# Altium integrated library WakameBoard.IntLib: 49 symbols
Pins are listed as number, name and electrical type; pins without a type are passive.

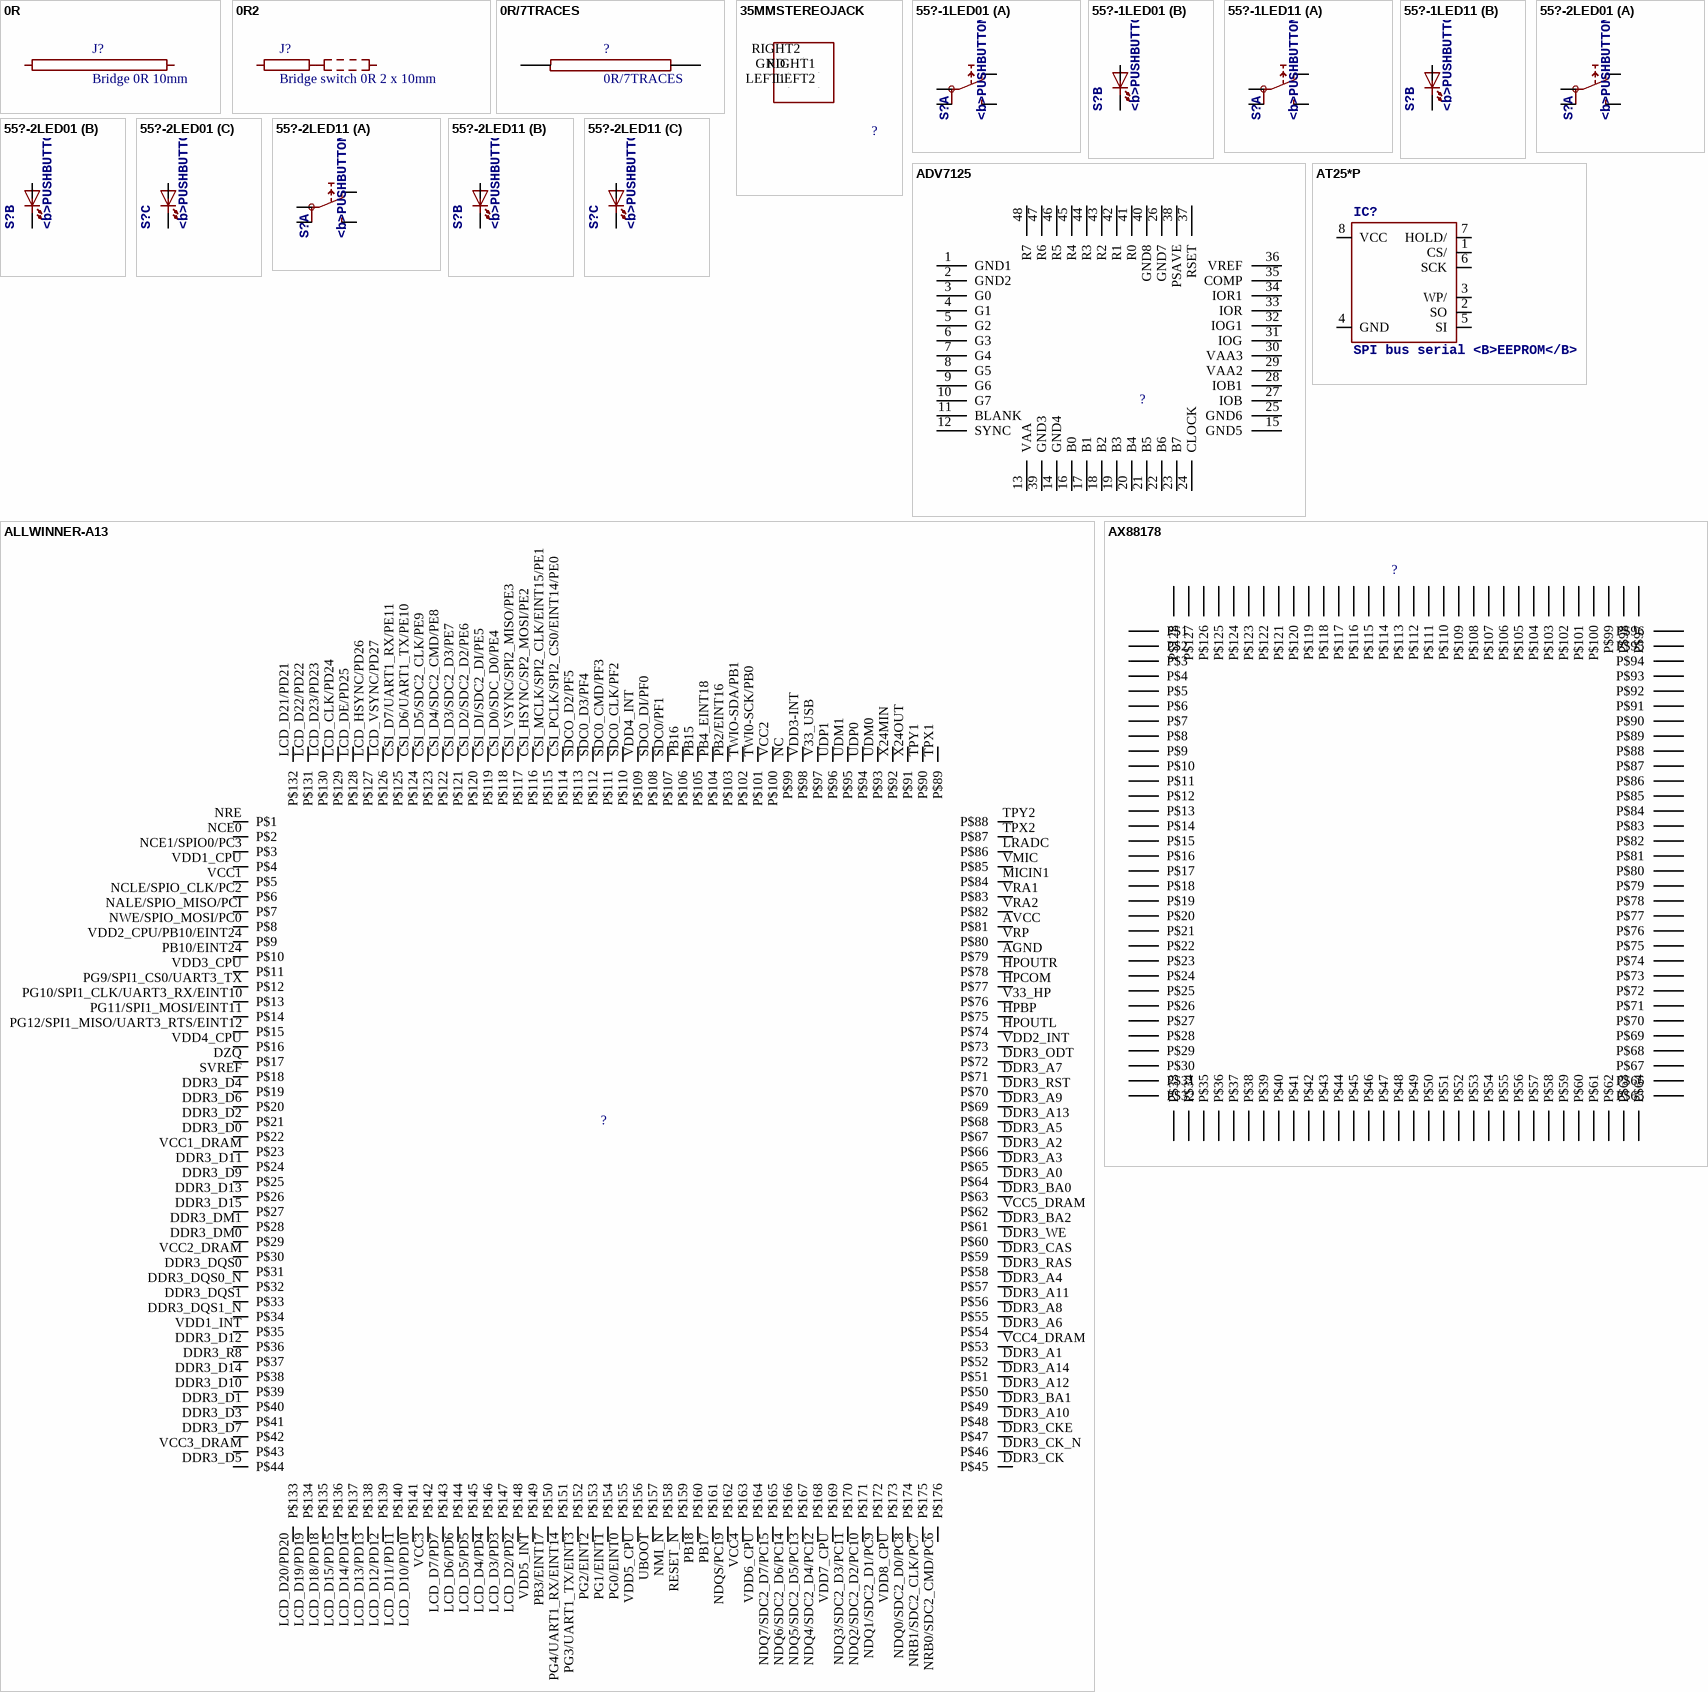
[diagram p0: symbols 0R to AX88178]

## 0R
designator J?, comment Bridge 0R 10mm
footprint 0R/10
pins: 1, 2

## 0R2
designator J?, comment Bridge switch 0R 2 x 10mm
footprint 0R2/10
pins: 1, 2, 3

## 0R/7TRACES
designator ?
footprint 0R/7TRACES
pins: P$1, P$2

## 35MMSTEREOJACK
designator ?
footprint PG203J
pins: GND P$1, LEFT1 P$2, LEFT2 P$3, RIGHT1 P$4, RIGHT2 P$5

## 55?-1LED01
designator S?, comment <b>PUSHBUTTON SERIES 5500 SWITCHES</b> 1 LED<p> / Source: www.e-switch.com .. 5500.pdf
footprint 5501-1LED
part A pins: 1A, 1B, NC, NO
part B pins: + A, - K

## 55?-1LED11
designator S?, comment <b>PUSHBUTTON SERIES 5500 SWITCHES</b> 1 LED<p> / Source: www.e-switch.com .. 5500.pdf
footprint 5511-1LED
part A pins: 1A, 1B, NC, NO
part B pins: +G A, -G K

## 55?-2LED01
designator S?, comment <b>PUSHBUTTON SERIES 5500 SWITCHES</b> 2 LED<p> / Source: www.e-switch.com .. 5500.pdf
footprint 5501-2LED
part A pins: 1A, 1B, NC, NO
part B pins: +R A, -R K
part C pins: +G A, -G K

## 55?-2LED11
designator S?, comment <b>PUSHBUTTON SERIES 5500 SWITCHES</b> 2 LED<p> / Source: www.e-switch.com .. 5500.pdf
footprint 5511-2LED
part A pins: 1A, 1B, NC, NO
part B pins: +Y A, -Y K
part C pins: +R A, -R K

## ADV7125
designator ?
footprint LFCSP48
pins: 1 GND1, 2 GND2, 3 G0, 4 G1, 5 G2, 6 G3, 7 G4, 8 G5, 9 G6, 10 G7, 11 BLANK, 12 SYNC, 13 VAA, 14 GND4, 15 GND5, 16 B0, 17 B1, 18 B2, 19 B3, 20 B4, 21 B5, 22 B6, 23 B7, 24 CLOCK, 25 GND6, 26 GND7, 27 IOB, 28 IOB1, 29 VAA2, 30 VAA3, 31 IOG, 32 IOG1, 33 IOR, 34 IOR1, 35 COMP, 36 VREF, 37 RSET, 38 PSAVE, 39 GND3, 40 GND8, 41 R0, 42 R1, 43 R2, 44 R3, 45 R4, 46 R5, 47 R6, 48 R7

## ALLWINNER-A13
designator ?
footprint PG-LQFP-176-2
pins: AGND P$79, AVCC P$81, CSI_D0/SDC_D0/PE4 P$118, CSI_D2/SDC2_D2/PE6 P$120, CSI_D3/SDC2_D3/PE7 P$121, CSI_D4/SDC2_CMD/PE8 P$122, CSI_D5/SDC2_CLK/PE9 P$123, CSI_D6/UART1_TX/PE10 P$124, CSI_D7/UART1_RX/PE11 P$125, CSI_DI/SDC2_DI/PE5 P$119, CSI_HSYNC/SP2_MOSI/PE2 P$116, CSI_MCLK/SPI2_CLK/EINT15/PE1 P$115, CSI_PCLK/SPI2_CS0/EINT14/PE0 P$114, CSI_VSYNC/SPI2_MISO/PE3 P$117, DDR3_A0 P$64, DDR3_A1 P$52, DDR3_A2 P$66, DDR3_A3 P$65, DDR3_A4 P$57, DDR3_A5 P$67, DDR3_A6 P$54, DDR3_A7 P$71, DDR3_A8 P$55, DDR3_A9 P$69, DDR3_A10 P$48, DDR3_A11 P$56, DDR3_A12 P$50, DDR3_A13 P$68, DDR3_A14 P$51, DDR3_BA0 P$63, DDR3_BA1 P$49, DDR3_BA2 P$61, DDR3_CAS P$59, DDR3_CK P$45, DDR3_CK_N P$46, DDR3_CKE P$47, DDR3_D0 P$22, DDR3_D1 P$40, DDR3_D2 P$21, DDR3_D3 P$41, DDR3_D4 P$19, DDR3_D5 P$44, DDR3_D6 P$20, DDR3_D7 P$42, DDR3_D9 P$25, DDR3_D10 P$39, DDR3_D11 P$24, DDR3_D12 P$36, DDR3_D13 P$26, DDR3_D14 P$38, DDR3_D15 P$27, DDR3_DM0 P$29, DDR3_DM1 P$28, DDR3_DQS0 P$31, DDR3_DQS0_N P$32, DDR3_DQS1 P$33, DDR3_DQS1_N P$34, DDR3_ODT P$72, DDR3_R8 P$37, DDR3_RAS P$58, DDR3_RST P$70, DDR3_WE P$60, DZQ P$17, HPBP P$75, HPCOM P$77, HPOUTL P$74, HPOUTR P$78, LCD_CLK/PD24 P$129, LCD_D2/PD2 P$148, LCD_D3/PD3 P$147, LCD_D4/PD4 P$146, LCD_D5/PD5 P$145, LCD_D6/PD6 P$144, LCD_D7/PD7 P$143, LCD_D10/PD10 P$141, LCD_D11/PD11 P$140, LCD_D12/PD12 P$139, LCD_D13/PD13 P$138, LCD_D14/PD14 P$137, LCD_D15/PD15 P$136, LCD_D18/PD18 P$135, LCD_D19/PD19 P$134, LCD_D20/PD20 P$133, LCD_D21/PD21 P$132, LCD_D22/PD22 P$131, LCD_D23/PD23 P$130, LCD_DE/PD25 P$128, LCD_HSYNC/PD26 P$127, LCD_VSYNC/PD27 P$126, LRADC P$86, MICIN1 P$84, NALE/SPIO_MISO/PCI P$7, NC P$99, NCE0 P$2, NCE1/SPIO0/PC3 P$3, NCLE/SPIO_CLK/PC2 P$6, NDQ0/SDC2_D0/PC8 P$174, NDQ1/SDC2_D1/PC9 P$172, NDQ2/SDC2_D2/PC10 P$171, NDQ3/SDC2_D3/PC11 P$170, NDQ4/SDC2_D4/PC12 P$168, NDQ5/SDC2_D5/PC13 P$167, NDQ6/SDC2_D6/PC14 P$166, NDQ7/SDC2_D7/PC15 P$165, NDQS/PC19 P$162, NMI_N P$158, NRB0/SDC2_CMD/PC6 P$176, NRB1/SDC2_CLK/PC7 P$175, NRE P$1, NWE/SPIO_MOSI/PC0 P$8, PB2/EINT16 P$103, PB3/EINT17 P$150, PB4_EINT18 P$104, PB10/EINT24 P$10, PB15 P$105, PB16 P$106, PB17 P$161, PB18 P$160, PG0/EINT0 P$155, PG1/EINT1 P$154, PG2/EINT2 P$153, PG3/UART1_TX/EINT3 P$152, PG4/UART1_RX/EINT14 P$151, PG9/SPI1_CS0/UART3_TX P$12, PG10/SPI1_CLK/UART3_RX/EINT10 P$13, PG11/SPI1_MOSI/EINT11 P$14, PG12/SPI1_MISO/UART3_RTS/EINT12 P$15, RESET_N P$159, SDC0/PF1 P$107, SDC0_CLK/PF2 P$110, SDC0_CMD/PF3 P$111, SDC0_D3/PF4 P$112, SDC0_DI/PF0 P$108, SDCO_D2/PF5 P$113, SVREF P$18, TPX1 P$89, TPX2 P$87, TPY1 P$90, TPY2 P$88, TWI0-SCK/PB0 P$101, TWIO-SDA/PB1 P$102, UBOOT P$157, UDM0 P$93, UDM1 P$95, UDP0 P$94, UDP1 P$96, V33_HP P$76, V33_USB P$97, VCC1 P$5, VCC1_DRAM P$23, VCC2 P$100, VCC2_DRAM P$30, VCC3 P$142, VCC3_DRAM P$43, VCC4 P$163, VCC4_DRAM P$53, VCC5_DRAM P$62, VDD1_CPU P$4, VDD1_INT P$35, VDD2_CPU/PB10/EINT24 P$9, VDD2_INT P$73, VDD3-INT P$98, VDD3_CPU P$11, VDD4_CPU P$16, VDD4_INT P$109, VDD5_CPU P$156, VDD5_INT P$149, VDD6_CPU P$164, VDD7_CPU P$169, VDD8_CPU P$173, VMIC P$85, VRA1 P$83, VRA2 P$82, VRP P$80, X24MIN P$92, X24OUT P$91

## AT25*P
designator IC?, comment SPI bus serial <B>EEPROM</B>
MPN: CAT25040LI-G; OC_FARNELL: 1718045; OC_NEWARK: 06R0588
footprint DIL08
pins: 1 CS/, 2 SO, 3 WP/, 4 GND (power), 5 SI, 6 SCK, 7 HOLD/, 8 VCC (power)

## AX88178
designator ?
footprint QFP128_SOT320-2
pins: AGND P$29, AGND1 P$33, AGND4 P$38, AGND5 P$50, AGND6 P$54, AGND7 P$55, AGND9 P$60, AGND10 P$63, AGND15 P$67, AGND16 P$69, AVDD3 P$28, AVDD3.1 P$37, AVDD3.2 P$39, AVDDK P$49, AVDDK2 P$53, AVDDK4 P$57, AVDDK9 P$64, AVDDK14 P$66, AVDDK16 P$68, CLK60EXT P$45, CLKSEL P$46, COL P$116, CRS P$115, DB P$65, DM P$31, DMRS P$35, DP P$32, DPRS P$36, EECK P$4, EECS P$5, EEDI P$6, EEDO P$9, EXTWAKEUP_N P$11, FORCEFS_N P$15, GND P$7, GND1 P$17, GND2 P$18, GND3 P$25, GND4 P$40, GND12 P$74, GND13 P$81, GND15 P$87, GND16 P$98, GND17 P$100, GND21 P$75, GND23 P$124, GND24 P$127, GNDAH P$23, GPIO0 P$3, GPIO1 P$2, GPIO2 P$1, GTX_CLK P$91, HS_TEST_MODE P$42, INT_REGULATOR_EN P$20, LED P$125, MDC P$121, MDINT P$117, MDIO P$120, NC P$47, NC1 P$14, NC2 P$48, NC3 P$51, NC4 P$52, NC7 P$58, NC8 P$59, NC9 P$61, NC10 P$56, NC11 P$62, NC17 P$71, NC18 P$72, NC19 P$92, NC20 P$93, NC21 P$94, NC22 P$73, NC23 P$96, NC24 P$70, NC25 P$95, NC26 P$119, PHYRST_N P$122, RESET_N P$12, RGMII_EN P$103, RPU P$34, RREF P$30, RX_CLK P$104, RX_DV P$105, RX_ER P$106, RXD0 P$107, RXD1 P$108, RXD2 P$109, RXD3 P$110, RXD4 P$111, RXD5 P$112, RXD6 P$113, RXD7 P$114, SCAN_ENABLE P$44, SCAN_TEST P$43, TESTSPEEDUP P$13, TX_CLK P$102, TX_EN P$89, TX_ER P$88, TXC P$90, TXD0 P$85, TXD1 P$84, TXD2 P$83, TXD3 P$82, TXD4 P$79, TXD5 P$78, TXD6 P$77, TXD7 P$76, USB_SPEED_LED P$126, V25 P$21, VBUS P$10, VDD2.3 P$123, VDD2.7 P$80, VDD2.8 P$86, VDD3 P$8, VDD3.1 P$19, VDD3.3 P$41, VDD3.4 P$97, VDD3.5 P$128, VDDAH P$22, VDDK P$16, VDDK1 P$24, VDDK11 P$99, VDDK14 P$118, XIN12M P$101, XIN125M P$26, XOUT12M P$27

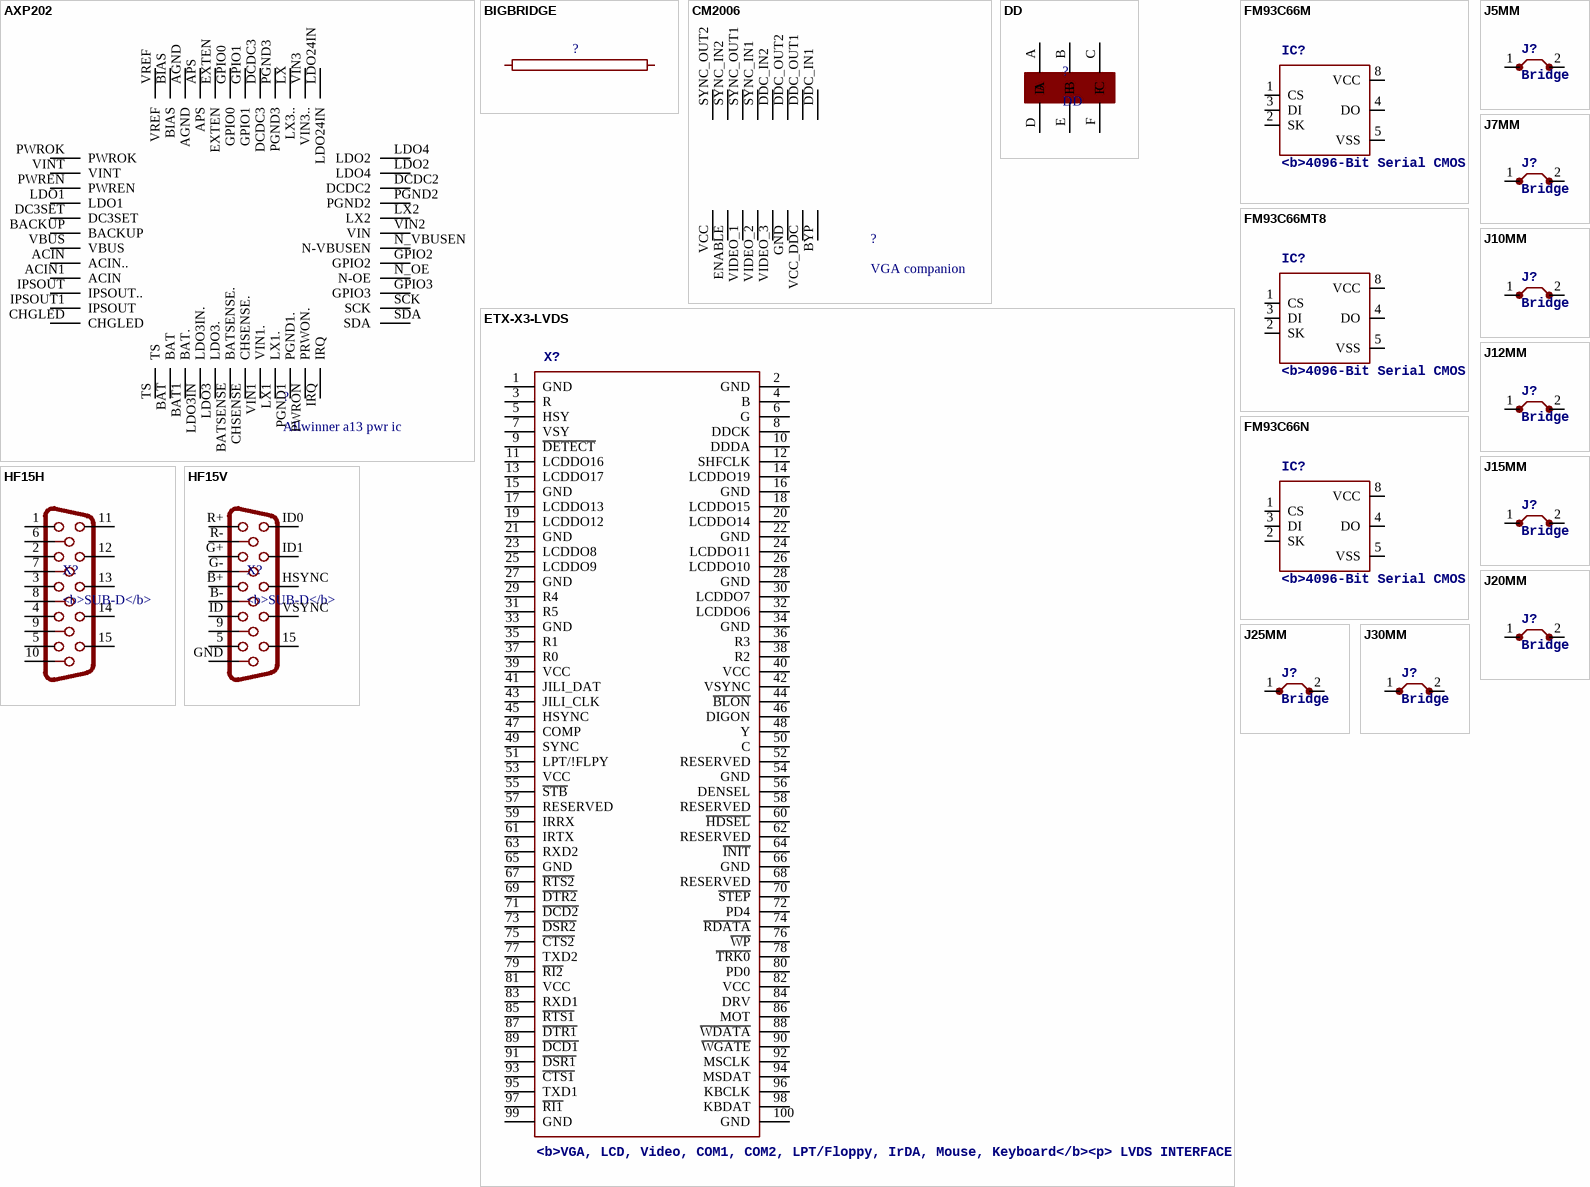
[diagram p1: symbols AXP202 to J30MM]

## AXP202
designator ?, comment Allwinner a13 pwr ic
footprint QFN48
pins: ACIN ACIN.., ACIN1 ACIN, AGND, APS, BACKUP, BAT, BAT1 BAT., BATSENSE BATSENSE., BIAS, CHGLED, CHSENSE CHSENSE., DC3SET, DCDC2, DCDC3, EXTEN, GPIO0, GPIO1, GPIO2, GPIO3, IPSOUT IPSOUT.., IPSOUT1 IPSOUT, IRQ, LDO1, LDO2 LDO4, LDO3 LDO3., LDO3IN LDO3IN., LDO4 LDO2, LDO24IN, LX LX3.., LX1 LX1., LX2, N_OE N-OE, N_VBUSEN N-VBUSEN, PGND1 PGND1., PGND2, PGND3, PWREN, PWROK, PWRON PRWON., SCK, SDA, TS, VBUS, VIN1 VIN1., VIN2 VIN, VIN3 VIN3.., VINT, VREF

## BIGBRIDGE
designator ?
pins: 1, 2

## CM2006
designator ?, comment VGA companion
footprint QSOP16
pins: BYP P$8, DDC_IN1 P$9, DDC_IN2 P$12, DDC_OUT1 P$10, DDC_OUT2 P$11, ENABLE P$2, GND P$6, SYNC_IN1 P$13, SYNC_IN2 P$15, SYNC_OUT1 P$14, SYNC_OUT2 P$16, VCC P$1, VCC_DDC P$7, VIDEO_1 P$3, VIDEO_2 P$4, VIDEO_3 P$5

## DD
designator ?
footprint DD
pins: A, B, C, D, E, F

## ETX-X3-LVDS
designator X?, comment <b>VGA, LCD, Video, COM1, COM2, LPT/Floppy, IrDA, Mouse, Keyboard</b><p> / LVDS INTERFACE PINOUT, PARALLEL PORT MODE PINOUT<br> / ETX Board Connector 100 Pos.<br> / Source: www.kontron.com/techlib/whitepapers/etx_spec.pdf
footprint FX8-100S-SV
pins: 1 GND (power), 2 GND (power), 3 R, 4 B, 5 HSY, 6 G, 7 VSY, 8 DDCK, 9 ~{DETECT}, 10 DDDA, 11 LCDDO16, 12 SHFCLK, 13 LCDDO17, 14 LCDDO19, 15 GND (power), 16 GND (power), 17 LCDDO13, 18 LCDDO15, 19 LCDDO12, 20 LCDDO14, 21 GND (power), 22 GND (power), 23 LCDDO8, 24 LCDDO11, 25 LCDDO9, 26 LCDDO10, 27 GND (power), 28 GND (power), 29 R4, 30 LCDDO7, 31 R5, 32 LCDDO6, 33 GND (power), 34 GND (power), 35 R1, 36 R3, 37 R0, 38 R2, 39 VCC (power), 40 VCC (power), 41 JILI_DAT, 42 VSYNC, 43 JILI_CLK, 44 ~{BLON}, 45 HSYNC, 46 DIGON, 47 COMP, 48 Y, 49 SYNC, 50 C, 51 LPT/!FLPY, 52 RESERVED, 53 VCC (power), 54 GND (power), 55 ~{STB}, 56 DENSEL, 57 RESERVED, 58 RESERVED, 59 IRRX, 60 ~{HDSEL}, 61 IRTX, 62 RESERVED, 63 RXD2, 64 ~{INIT}, 65 GND (power), 66 GND (power), 67 ~{RTS2}, 68 RESERVED, 69 ~{DTR2}, 70 ~{STEP}, 71 ~{DCD2}, 72 PD4, 73 ~{DSR2}, 74 ~{RDATA}, 75 ~{CTS2}, 76 ~{WP}, 77 TXD2, 78 ~{TRK0}, 79 ~{RI2}, 80 PD0, 81 VCC (power), 82 VCC (power), 83 RXD1, 84 DRV, 85 ~{RTS1}, 86 MOT, 87 ~{DTR1}, 88 ~{WDATA}, 89 ~{DCD1}, 90 ~{WGATE}, 91 ~{DSR1}, 92 MSCLK, 93 ~{CTS1}, 94 MSDAT, 95 TXD1, 96 KBCLK, 97 ~{RI1}, 98 KBDAT, 99 GND (power), 100 GND (power)

## FM93C66M
designator IC?, comment <b>4096-Bit Serial CMOS EEPROM</b> (MICROWIRE TM Synchronous Bus)<p> / Source: www.fairchildsemi.com
footprint M8
pins: 1 CS, 2 SK, 3 DI, 4 DO (hiz), 5 VSS (power), 8 VCC (power)

## FM93C66MT8
designator IC?, comment <b>4096-Bit Serial CMOS EEPROM</b> (MICROWIRE TM Synchronous Bus)<p> / Source: www.fairchildsemi.com
footprint TSSOP8
pins: 1 CS, 2 SK, 3 DI, 4 DO (hiz), 5 VSS (power), 8 VCC (power)

## FM93C66N
designator IC?, comment <b>4096-Bit Serial CMOS EEPROM</b> (MICROWIRE TM Synchronous Bus)<p> / Source: www.fairchildsemi.com
footprint DIL08
pins: 1 CS, 2 SK, 3 DI, 4 DO (hiz), 5 VSS (power), 8 VCC (power)

## HF15H
designator X?, comment <b>SUB-D</b>
OC_FARNELL: unknown; OC_NEWARK: unknown
footprint HDF15H
pins: 1, 2, 3, 4, 5, 6, 7, 8, 9, 10, 11, 12, 13, 14, 15

## HF15V
designator X?, comment <b>SUB-D</b>
OC_FARNELL: unknown; OC_NEWARK: unknown
footprint HDF15V
pins: 5, 9, 15, B+ 3, B- 8, G+ 2, G- 7, GND 10, HSYNC 13, ID 4, ID0 11, ID1 12, R+ 1, R- 6, VSYNC 14

## J5MM
designator J?, comment Bridge
footprint 05
pins: 1, 2

## J7MM
designator J?, comment Bridge
footprint 07
pins: 1, 2

## J10MM
designator J?, comment Bridge
footprint 10
pins: 1, 2

## J12MM
designator J?, comment Bridge
footprint 12
pins: 1, 2

## J15MM
designator J?, comment Bridge
footprint 15
pins: 1, 2

## J20MM
designator J?, comment Bridge
footprint 20
pins: 1, 2

## J25MM
designator J?, comment Bridge
footprint 25
pins: 1, 2

## J30MM
designator J?, comment Bridge
footprint 30
pins: 1, 2

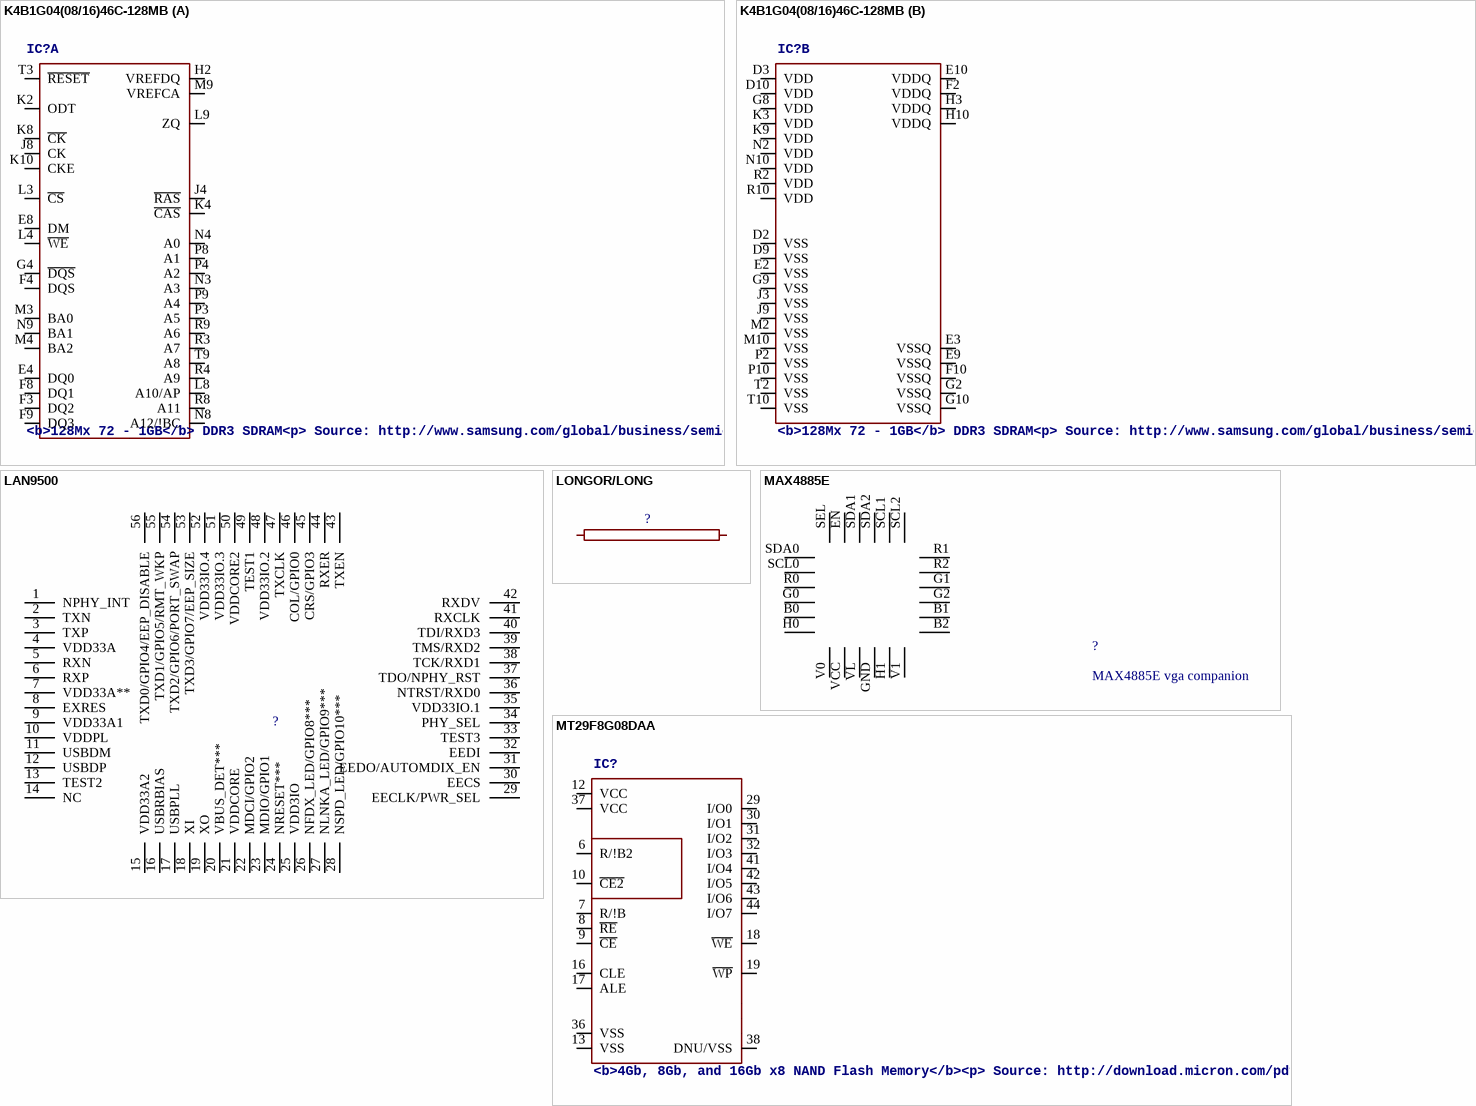
[diagram p2: symbols K4B1G04(08/16)46C-128MB to MT29F8G08DAA]

## K4B1G04(08/16)46C-128MB
designator IC?, comment <b>128Mx 72 - 1GB</b> DDR3 SDRAM<p> / Source: http://www.samsung.com/global/business/semiconductor/products/dram/downloads/ddr3_product_guide_july_07.pdf
OC_FARNELL: unknown; OC_NEWARK: unknown
footprint FBGA-94-C
part A pins: E4 DQ0, E8 DM, F3 DQ2, F4 DQS, F8 DQ1, F9 DQ3, G4 ~{DQS}, H2 VREFDQ, J4 ~{RAS}, J8 CK, K2 ODT, K4 ~{CAS}, K8 ~{CK}, K10 CKE, L3 ~{CS}, L4 ~{WE}, L8 A10/AP, L9 ZQ, M3 BA0, M4 BA2, M8 NC, M9 VREFCA, N3 A3, N4 A0, N8 A12/!BC, N9 BA1, P3 A5, P4 A2, P8 A1, P9 A4, R3 A7, R4 A9, R8 A11, R9 A6, T3 ~{RESET}, T4 NC, T8 NC, T9 A8
part B pins: D2 VSS, D3 VDD, D9 VSS, D10 VDD, E2 VSS, E3 VSSQ, E9 VSSQ, E10 VDDQ, F2 VDDQ, F10 VSSQ, G2 VSSQ, G8 VDD, G9 VSS, G10 VSSQ, H3 VDDQ, H10 VDDQ, J3 VSS, J9 VSS, K3 VDD, K9 VDD, M2 VSS, M10 VSS, N2 VDD, N10 VDD, P2 VSS, P10 VSS, R2 VDD, R10 VDD, T2 VSS, T10 VSS

## LAN9500
designator ?
footprint QFN56
pins: 1 NPHY_INT, 2 TXN, 3 TXP, 4 VDD33A, 5 RXN, 6 RXP, 7 VDD33A**, 8 EXRES, 9 VDD33A1, 10 VDDPL, 11 USBDM, 12 USBDP, 13 TEST2, 14 NC, 15 VDD33A2, 16 USBRBIAS, 17 USBPLL, 18 XI, 19 XO, 20 VBUS_DET***, 21 VDDCORE, 22 MDCI/GPIO2, 23 MDIO/GPIO1, 24 NRESET***, 25 VDD3IO, 26 NFDX_LED/GPIO8***, 27 NLNKA_LED/GPIO9***, 28 NSPD_LED/GPIO10***, 29 EECLK/PWR_SEL, 30 EECS, 31 EEDO/AUTOMDIX_EN, 32 EEDI, 33 TEST3, 34 PHY_SEL, 35 VDD33IO.1, 36 NTRST/RXD0, 37 TDO/NPHY_RST, 38 TCK/RXD1, 39 TMS/RXD2, 40 TDI/RXD3, 41 RXCLK, 42 RXDV, 43 TXEN, 44 RXER, 45 CRS/GPIO3, 46 COL/GPIO0, 47 TXCLK, 48 VDD33IO.2, 49 TEST1, 50 VDDCORE2, 51 VDD33IO.3, 52 VDD33IO.4, 53 TXD3/GPIO7/EEP_SIZE, 54 TXD2/GPIO6/PORT_SWAP, 55 TXD1/GPIO5/RMT_WKP, 56 TXD0/GPIO4/EEP_DISABLE

## LONGOR/LONG
designator ?
footprint 0R/10
pins: 1, 2

## MAX4885E
designator ?, comment MAX4885E vga companion
footprint TQFN24-EP
pins: B0 P$5, B1 P$14, B2 P$13, EN P$23, G0 P$4, G1 P$16, G2 P$15, GND P$10, H0 P$6, H1 P$11, R0 P$3, R1 P$18, R2 P$17, SCL0 P$2, SCL1 P$20, SCL2 P$19, SDA0 P$1, SDA1 P$22, SDA2 P$21, SEL P$24, V0 P$7, V1 P$12, VCC P$8, VL P$9

## MT29F8G08DAA
designator IC?, comment <b>4Gb, 8Gb, and 16Gb x8 NAND Flash Memory</b><p> / Source: http://download.micron.com/pdf/datasheets/flash/nand/4gb_nand_m40a.pdf
OC_FARNELL: unknown; OC_NEWARK: unknown
footprint TSOP48
pins: 6 R/!B2, 7 R/!B, 8 ~{RE}, 9 ~{CE}, 10 ~{CE2}, 12 VCC (power), 13 VSS (power), 16 CLE, 17 ALE, 18 ~{WE}, 19 ~{WP}, 25 DNU, 26 DNU, 29 I/O0, 30 I/O1, 31 I/O2, 32 I/O3, 36 VSS (power), 37 VCC (power), 38 DNU/VSS, 41 I/O4, 42 I/O5, 43 I/O6, 44 I/O7, 48 DNU

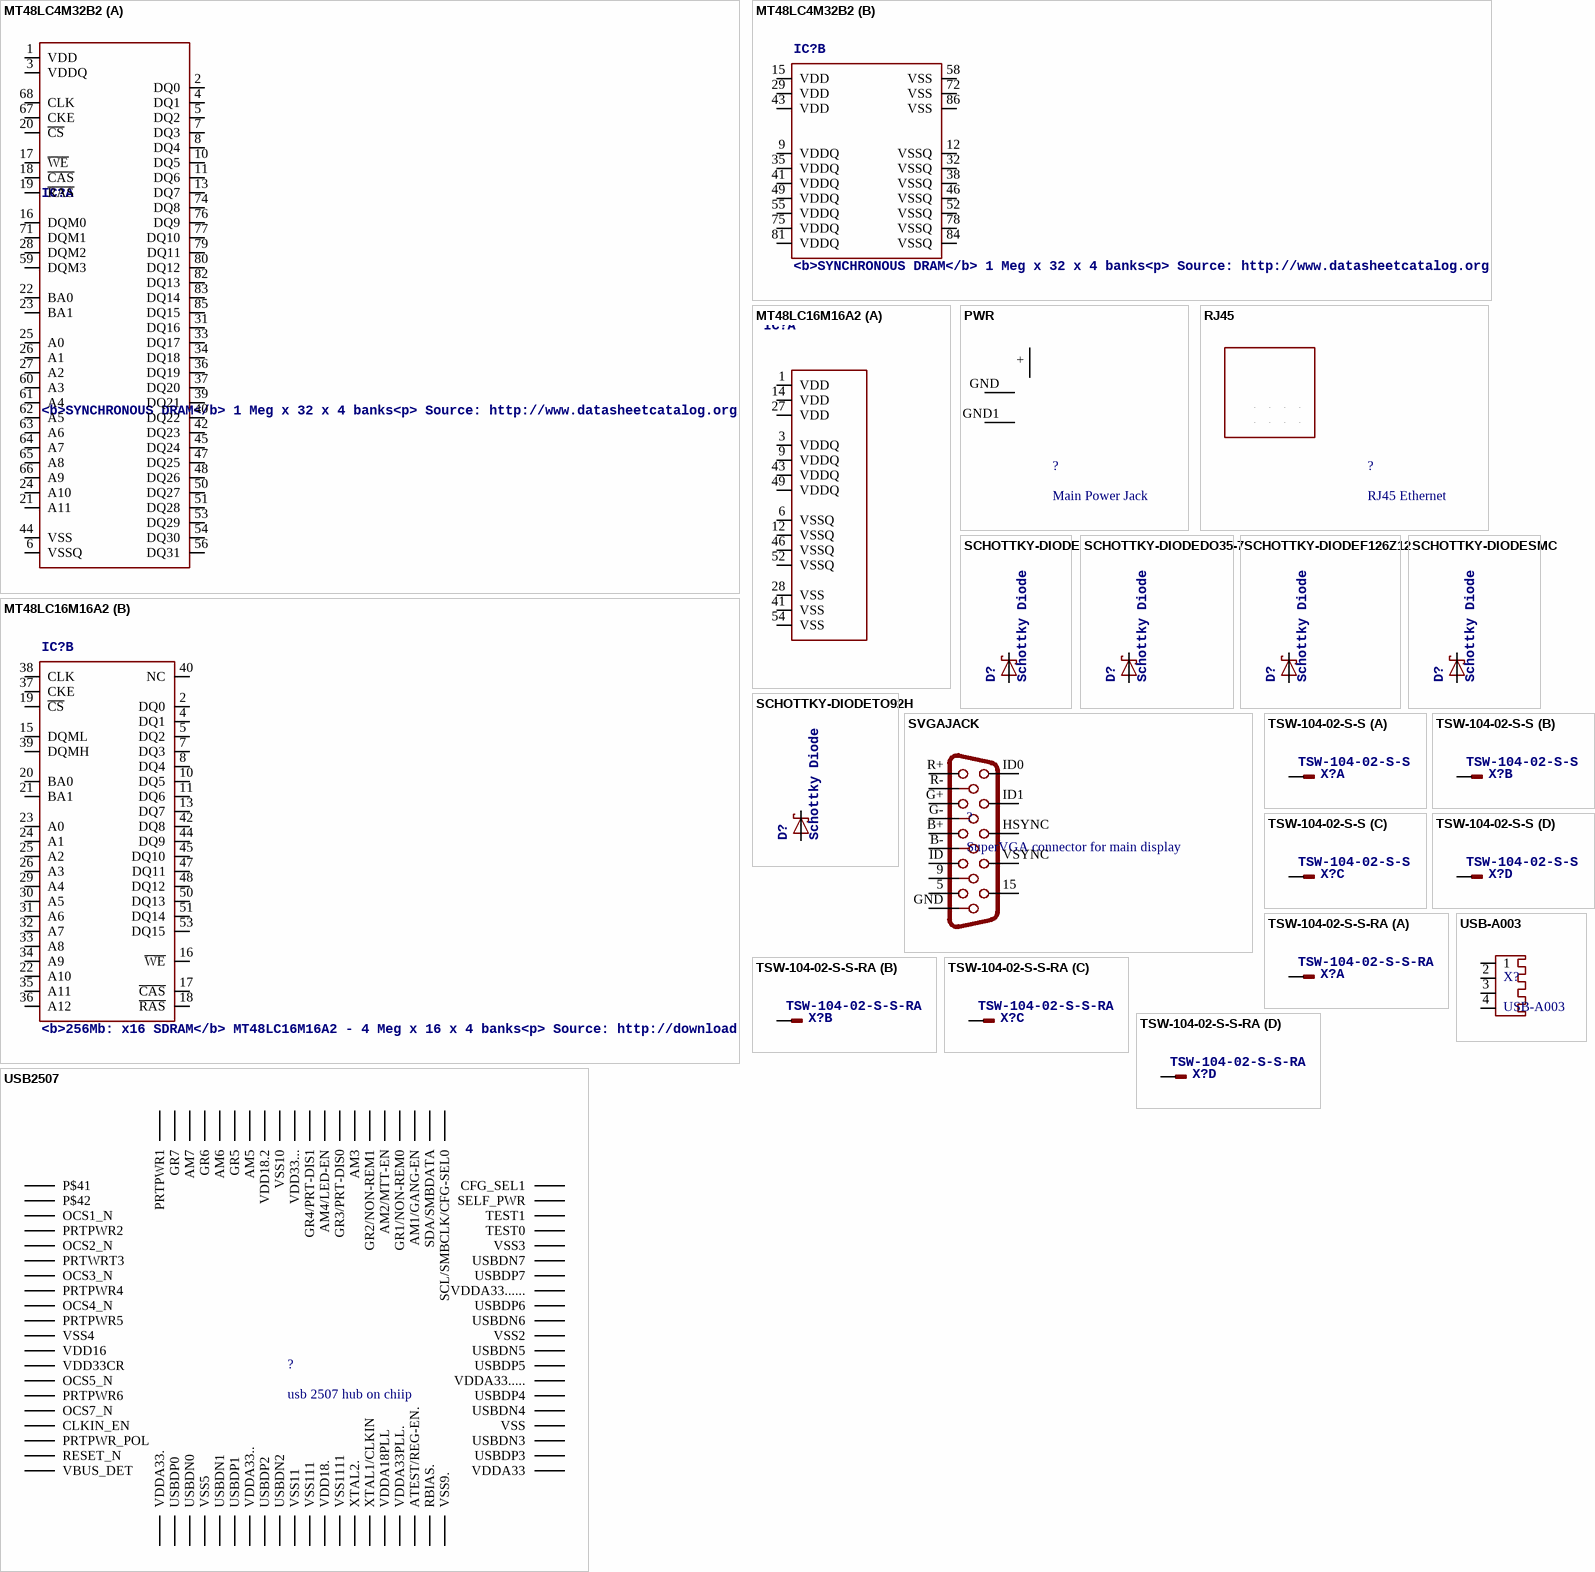
[diagram p3: symbols MT48LC4M32B2 to USB-A003]

## MT48LC4M32B2
designator IC?, comment <b>SYNCHRONOUS DRAM</b> 1 Meg x 32 x 4 banks<p> / Source: http://www.datasheetcatalog.org/datasheet/micron/MT48LC4M32B2.pdf
MPN: MT48LC4M32B2P-6:G; OC_FARNELL: 1216286; OC_NEWARK: 97K6124
footprint TSOP86
part A pins: 1 VDD (power), 2 DQ0, 3 VDDQ (power), 4 DQ1, 5 DQ2, 6 VSSQ (power), 7 DQ3, 8 DQ4, 10 DQ5, 11 DQ6, 13 DQ7, 16 DQM0, 17 ~{WE}, 18 ~{CAS}, 19 ~{RAS}, 20 ~{CS}, 21 A11, 22 BA0, 23 BA1, 24 A10, 25 A0, 26 A1, 27 A2, 28 DQM2, 31 DQ16, 33 DQ17, 34 DQ18, 36 DQ19, 37 DQ20, 39 DQ21, 40 DQ22, 42 DQ23, 44 VSS (power), 45 DQ24, 47 DQ25, 48 DQ26, 50 DQ27, 51 DQ28, 53 DQ29, 54 DQ30, 56 DQ31, 59 DQM3, 60 A3, 61 A4, 62 A5, 63 A6, 64 A7, 65 A8, 66 A9, 67 CKE, 68 CLK, 71 DQM1, 74 DQ8, 76 DQ9, 77 DQ10, 79 DQ11, 80 DQ12, 82 DQ13, 83 DQ14, 85 DQ15
part B pins: 9 VDDQ (power), 12 VSSQ (power), 15 VDD (power), 29 VDD (power), 32 VSSQ (power), 35 VDDQ (power), 38 VSSQ (power), 41 VDDQ (power), 43 VDD (power), 46 VSSQ (power), 49 VDDQ (power), 52 VSSQ (power), 55 VDDQ (power), 58 VSS (power), 72 VSS (power), 75 VDDQ (power), 78 VSSQ (power), 81 VDDQ (power), 84 VSSQ (power), 86 VSS (power)

## MT48LC16M16A2
designator IC?, comment <b>256Mb: x16 SDRAM</b> MT48LC16M16A2 - 4 Meg x 16 x 4 banks<p> / Source: http://download.micron.com/pdf/datasheets/dram/sdram/256MSDRAM.pdf
OC_FARNELL: unknown; OC_NEWARK: unknown
footprint TSOP54-400
part A pins: 1 VDD (power), 3 VDDQ (power), 6 VSSQ (power), 9 VDDQ (power), 12 VSSQ (power), 14 VDD (power), 27 VDD (power), 28 VSS (power), 41 VSS (power), 43 VDDQ (power), 46 VSSQ (power), 49 VDDQ (power), 52 VSSQ (power), 54 VSS (power)
part B pins: 2 DQ0 (hiz), 4 DQ1 (hiz), 5 DQ2 (hiz), 7 DQ3 (hiz), 8 DQ4 (hiz), 10 DQ5 (hiz), 11 DQ6 (hiz), 13 DQ7 (hiz), 15 DQML, 16 ~{WE}, 17 ~{CAS}, 18 ~{RAS}, 19 ~{CS}, 20 BA0, 21 BA1, 22 A10, 23 A0, 24 A1, 25 A2, 26 A3, 29 A4, 30 A5, 31 A6, 32 A7, 33 A8, 34 A9, 35 A11, 36 A12, 37 CKE, 38 CLK, 39 DQMH, 40 NC, 42 DQ8 (hiz), 44 DQ9 (hiz), 45 DQ10 (hiz), 47 DQ11 (hiz), 48 DQ12 (hiz), 50 DQ13 (hiz), 51 DQ14 (hiz), 53 DQ15 (hiz)

## PWR
designator ?, comment Main Power Jack
footprint SCD-014-A
pins: +, GND, GND1

## RJ45
designator ?, comment RJ45 Ethernet
footprint RJ45-SHIELD1
pins: 1 P$1, 2 P$2, 3 P$3, 4 P$4, 5 P$5, 6 P$6, 7 P$7, 8 P$8

## SCHOTTKY-DIODE
designator D?, comment Schottky Diode
SPICEMODEL: NONE; SPICEPREFIX: D; SPICETYPE: diode
footprint DIODE_SMB
pins: A C, C A

## SCHOTTKY-DIODEDO35-7
designator D?, comment Schottky Diode
SPICEMODEL: NONE; SPICEPREFIX: D; SPICETYPE: diode
footprint DIODE_DO35-7
pins: A C, C A

## SCHOTTKY-DIODEF126Z12
designator D?, comment Schottky Diode
SPICEMODEL: NONE; SPICEPREFIX: D; SPICETYPE: diode
footprint DIODE_F126Z12
pins: A C, C A

## SCHOTTKY-DIODESMC
designator D?, comment Schottky Diode
SPICEMODEL: NONE; SPICEPREFIX: D; SPICETYPE: diode
footprint DIODE_SMC
pins: A C, C A

## SCHOTTKY-DIODETO92H
designator D?, comment Schottky Diode
SPICEMODEL: NONE; SPICEPREFIX: D; SPICETYPE: diode
footprint DIODE_TO92H
pins: 1 C, 2 A

## SVGAJACK
designator ?, comment SuperVGA connector for main display
footprint HDF15V
pins: 5, 9, 15, B+ 3, B- 8, G+ 2, G- 7, GND 10, HSYNC 13, ID 4, ID0 11, ID1 12, R+ 1, R- 6, VSYNC 14

## TSW-104-02-S-S
designator X?
OC_FARNELL: unknown; OC_NEWARK: unknown
footprint TSW-104-02-S-S
part A pins: 1
part B pins: 2 1
part C pins: 3 1
part D pins: 4 1

## TSW-104-02-S-S-RA
designator X?
OC_FARNELL: unknown; OC_NEWARK: unknown
footprint TSW-104-02-S-S-RA
part A pins: 1
part B pins: 2 1
part C pins: 3 1
part D pins: 4 1

## USB2507
designator ?, comment usb 2507 hub on chiip
footprint TQFP80
pins: AM1/GANG_EN AM1/GANG-EN, AM2/MTT_EN AM2/MTT-EN, AM3, AM4/LED_EN AM4/LED-EN, AM5, AM6, AM7, ATEST/REG_EN ATEST/REG-EN., CFG_SEL1, CLKIN_EN, GR1/NON_REM0 GR1/NON-REM0, GR2_NON_REM1 GR2/NON-REM1, GR3/PRT_DIS0 GR3/PRT-DIS0, GR4/PRT_DIS1 GR4/PRT-DIS1, GR5, GR6, GR7, OCS1_N P$41, OCS2_N OCS1_N, OCS3_N OCS2_N, OCS4_N OCS3_N, OCS5_N VDD16, OCS6_N OCS5_N, OCS7_N, PRTPWR1, PRTPWR2 P$42, PRTPWR3 PRTPWR2, PRTPWR4 PRTWRT3, PRTPWR5 PRTPWR4, PRTPWR6 VDD33CR, PRTPWR7 PRTPWR6, PRTPWR_POL, RBIAS RBIAS., RESET_N, SCL/SMBCLK/CFG_SEL0 SCL/SMBCLK/CFG-SEL0, SDA/SMBDATA, SELF_PWR, TEST0, TEST1, USBDN0, USBDN1, USBDN2, USBDN3, USBDN4, USBDN5, USBDN6, USBDN7, USBDP0, USBDP1, USBDP2, USBDP3, USBDP4, USBDP5, USBDP6, USBDP7, VBUS_DET, VDD18 VDD18.2, VDD18.2 PRTPWR5, VDD18.3 VDD18., VDD33 VDDA33, VDD33.3 VDD33..., VDD33CR VSS4, VDDA3.1 VDDA33.., VDDA18/PLL VDDA18PLL, VDDA33 VDDA33....., VDDA33.2 VDDA33......, VDDA33.4 VDDA33., VDDA33/PLL VDDA33PLL., VSS, VSS0 VSS9., VSS1 VSS2, VSS3, VSS4 VSS10, VSS5 OCS4_N, VSS6 VSS5, VSS7 VSS11, VSS8 VSS111, VSS9 VSS1111, XTAL1/CLKIN, XTAL2 XTAL2.

## USB-A003
designator X?
OC_FARNELL: unknown; OC_NEWARK: unknown
footprint USB-A003
pins: 1, 2, 3, 4